# Altium footprint library NBNZY_AD_LIB.PcbLib: 11 footprints
Each footprint in its own frame and in the unit in brackets; x right, y up, seen from the top. Pads: shape width x height; smd on the part's side, far side on the other; paste and mask are expansions set on the pad; w line width, h text height; cw(c..) or ccw(c..) is an arc to the next point about the centre after c.
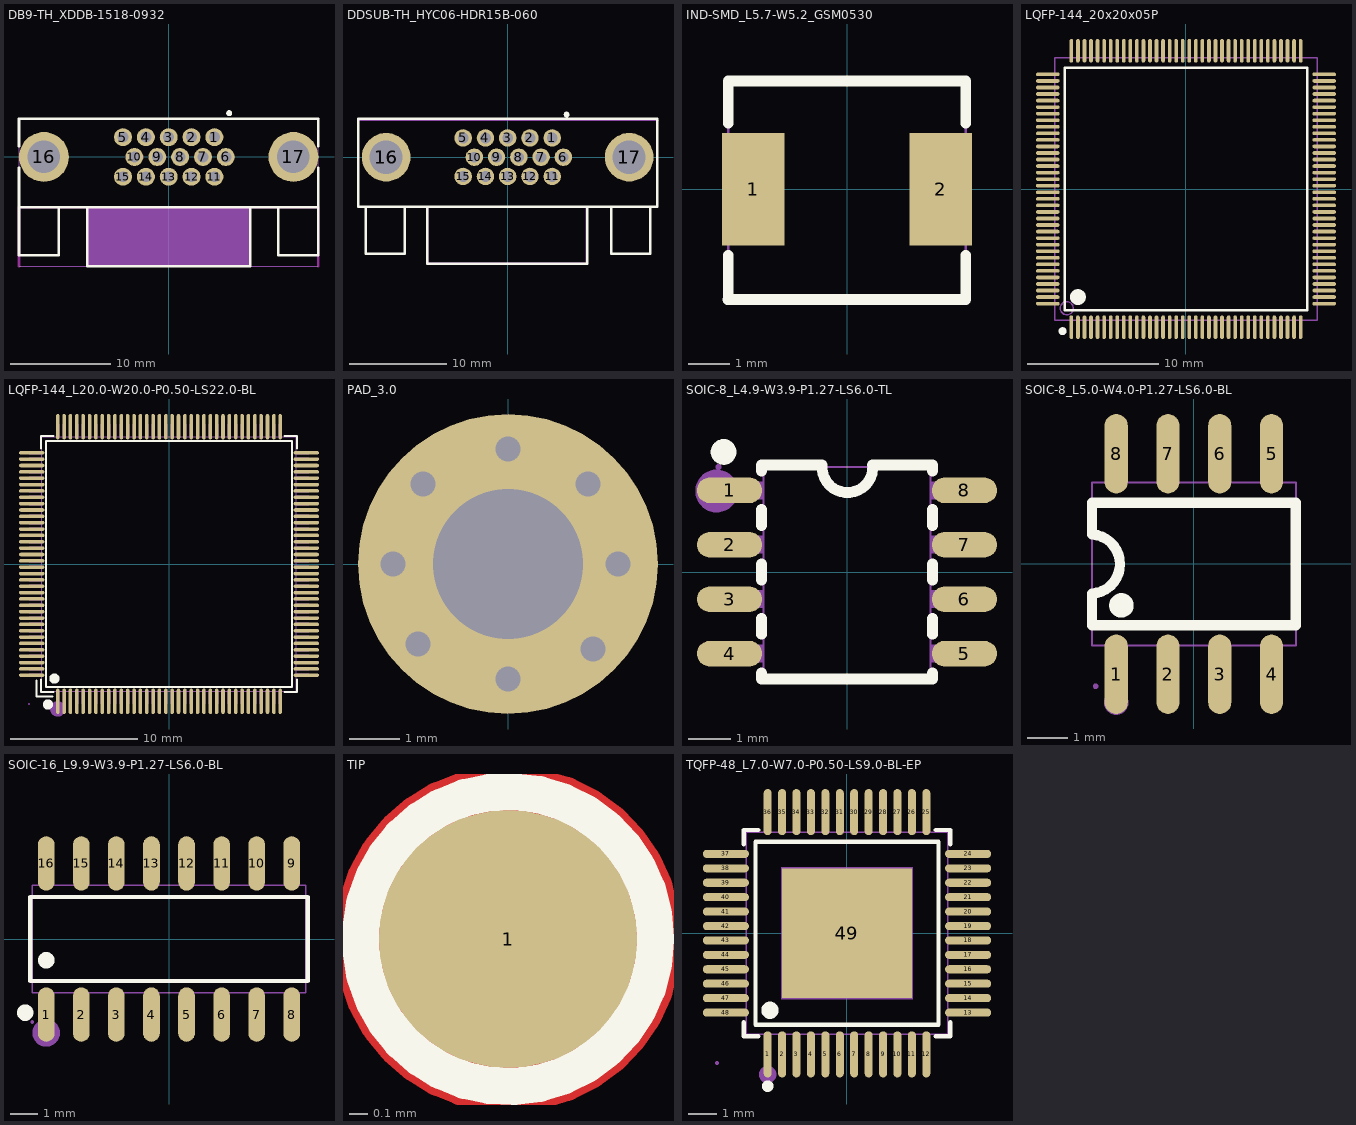
[diagram p0: the footprints below, top view; thin cyan lines are the x and y axes]

## DB9-TH_XDDB-1518-0932 [mil]
pads (17):
  round 70.9 hole 43.3: 1(180.3,78) 2(90.1,78) 3(-0.1,78) 4(-90.2,78) 5(-180.4,78) 6(225.3,0) 7(135.2,0) 8(45,0) 9(-45.1,0) 10(-135.3,0) 11(180.3,-78) 12(90.1,-78) 13(-0.1,-78) 14(-90.2,-78) 15(-180.4,-78)
  round 196.8 hole 128: 16(-492.2,0) 17(492.1,0)
Top Overlay:
  circle w11.8: c238.6,172.9 r5.9
  lines w10: -590.6,-43.1 -590.6,-199.2 ; -590.6,43.1 -590.6,151.2 590.5,151.2 590.5,43.1 ; -433.1,-199.2 -433.1,-388.2 -590.6,-388.2 -590.6,-199.2 ; -321.9,-199.2 -321.9,-431.5 321.8,-431.5 321.8,-199.2 ; 433,-199.2 433,-388.2 590.5,-388.2 590.5,-199.2 ; 590.5,-43.1 590.5,-199.2 ; -590.6,-199.2 590.5,-199.2
Keep-Out Layer:
  lines w10: -590.6,-431.5 -590.6,-199.2 590.5,-199.2 590.5,-431.5
Mechanical 2:
  region: -321.9,-199.2 321.8,-199.2 321.8,-431.5 -321.9,-431.5
Mechanical 6:
  lines w2: -590.6,-431.5 590.5,-431.5 590.5,151.2 -590.6,151.2 -590.6,-431.5
Mechanical 8:
  region: 592.9,151.2 592.9,150.21 591.49,148.8 589.51,148.8 588.1,150.21 588.1,151.2 588.1,152.19 589.51,153.6 591.49,153.6 592.9,152.19
Mechanical 9:
  drawing of 17 lines, arcs and shapes, not listed

## DDSUB-TH_HYC06-HDR15B-060 [mil]
pads (19):
  round 70.9 hole 43.3: 1(180.3,78) 2(90.1,78) 3(-0.1,78) 4(-90.2,78) 5(-180.4,78) 6(225.3,0) 7(135.2,0) 8(45,0) 9(-45.1,0) 10(-135.3,0) 11(180.3,-78) 12(90.1,-78) 13(-0.1,-78) 14(-90.2,-78) 15(-180.4,-78)
  round 196.8 hole 128: 16(-492.1,0) 17(492.1,0)
  round 177.2 hole 133.9: 16(-492.1,0) 17(492.1,0)
Top Overlay:
  circle w11.8: c238.6,172.9 r5.9
  lines w10: -575,-200 -575,-390 -417.5,-390 -417.5,-200 ; -325,-200 -325,-425 -325,-432.3 -321.8,-432.3 321.9,-432.3 321.9,-200 ; 419.7,-390 577.1,-390 577.1,-200 ; 420,-390 420,-200 ; -605,-200 605,-200 605,155 -605,155 -605,-200
Mechanical 2:
  region: -328.8,-198 -328.8,-430.3 -322.9,-436.2 320.8,-436.2 324.7,-432.3 324.7,-198 316.8,-198 316.8,-428.3 -321,-428.3 -321,-198
Mechanical 6:
  lines w2: -606.3,-200 -321.8,-200 -321.8,-432.3 321.9,-432.3 321.9,-200 606.3,-200 606.3,150.4 -606.3,150.4 -606.3,-200
Mechanical 8:
  region: 608.7,150.4 608.3,149.1 607.3,148.3 606,148.1 604.8,148.6 604,149.7 604,151.1 604.8,152.2 606,152.8 607.3,152.6 608.3,151.7
Mechanical 9:
  drawing of 17 lines, arcs and shapes, not listed

## IND-SMD_L5.7-W5.2_GSM0530 [mm]
pads (2):
  rect 1.501x2.7 smd: 1(-2.25,0) 2(2.25,0)
Top Overlay:
  lines w0.254: -2.865,-2.644 2.837,-2.644 ; -2.85,-2.644 -2.85,-1.73 -2.85,-1.58 ; -2.85,1.582 -2.85,1.732 -2.85,2.601 2.85,2.601 2.85,1.732 2.85,1.582 ; 2.85,-2.644 2.85,-1.73 ; 2.85,-2.05 2.85,-1.58
Mechanical 6:
  lines w0.051: -2.85,-2.598 2.85,-2.598 2.85,2.601 -2.85,2.601 -2.85,-2.598
Mechanical 8:
  region: -2.789,2.601 -2.789,2.576 -2.825,2.54 -2.875,2.54 -2.911,2.576 -2.911,2.601 -2.911,2.626 -2.875,2.662 -2.825,2.662 -2.789,2.626
Mechanical 9:
  region: 1.651,1.1 2.85,1.1 2.85,-1.1 1.651,-1.1
  region: -2.85,1.1 -1.651,1.1 -1.651,-1.1 -2.85,-1.1

## LQFP-144_20x20x05P [mm]
height 0.5
pads (144):
  oval 0.28x1.8 smd mask+0.051: 1(-8.75,-10.55) 2(-8.25,-10.55) 3(-7.75,-10.55) 4(-7.25,-10.55) 5(-6.75,-10.55) 6(-6.25,-10.55) 7(-5.75,-10.55) 8(-5.25,-10.55) 9(-4.75,-10.55) 10(-4.25,-10.55) 11(-3.75,-10.55) 12(-3.25,-10.55) 13(-2.75,-10.55) 14(-2.25,-10.55) 15(-1.75,-10.55) 16(-1.25,-10.55) 17(-0.75,-10.55) 18(-0.25,-10.55) 19(0.25,-10.55) 20(0.75,-10.55) 21(1.25,-10.55) 22(1.75,-10.55) 23(2.25,-10.55) 24(2.75,-10.55) 25(3.25,-10.55) 26(3.75,-10.55) 27(4.25,-10.55) 28(4.75,-10.55) 29(5.25,-10.55) 30(5.75,-10.55) 31(6.25,-10.55) 32(6.75,-10.55) 33(7.25,-10.55) 34(7.75,-10.55) 35(8.25,-10.55) 36(8.75,-10.55) 73(8.75,10.55) 74(8.25,10.55) 75(7.75,10.55) 76(7.25,10.55) 77(6.75,10.55) 78(6.25,10.55) 79(5.75,10.55) 80(5.25,10.55) 81(4.75,10.55) 82(4.25,10.55) 83(3.75,10.55) 84(3.25,10.55) 85(2.75,10.55) 86(2.25,10.55) 87(1.75,10.55) 88(1.25,10.55) 89(0.75,10.55) 90(0.25,10.55) 91(-0.25,10.55) 92(-0.75,10.55) 93(-1.25,10.55) 94(-1.75,10.55) 95(-2.25,10.55) 96(-2.75,10.55) 97(-3.25,10.55) 98(-3.75,10.55) 99(-4.25,10.55) 100(-4.75,10.55) 101(-5.25,10.55) 102(-5.75,10.55) 103(-6.25,10.55) 104(-6.75,10.55) 105(-7.25,10.55) 106(-7.75,10.55) 107(-8.25,10.55) 108(-8.75,10.55)
  oval 1.8x0.28 smd mask+0.051: 37(10.55,-8.75) 38(10.55,-8.25) 39(10.55,-7.75) 40(10.55,-7.25) 41(10.55,-6.75) 42(10.55,-6.25) 43(10.55,-5.75) 44(10.55,-5.25) 45(10.55,-4.75) 46(10.55,-4.25) 47(10.55,-3.75) 48(10.55,-3.25) 49(10.55,-2.75) 50(10.55,-2.25) 51(10.55,-1.75) 52(10.55,-1.25) 53(10.55,-0.75) 54(10.55,-0.25) 55(10.55,0.25) 56(10.55,0.75) 57(10.55,1.25) 58(10.55,1.75) 59(10.55,2.25) 60(10.55,2.75) 61(10.55,3.25) 62(10.55,3.75) 63(10.55,4.25) 64(10.55,4.75) 65(10.55,5.25) 66(10.55,5.75) 67(10.55,6.25) 68(10.55,6.75) 69(10.55,7.25) 70(10.55,7.75) 71(10.55,8.25) 72(10.55,8.75) 109(-10.55,8.75) 110(-10.55,8.25) 111(-10.55,7.75) 112(-10.55,7.25) 113(-10.55,6.75) 114(-10.55,6.25) 115(-10.55,5.75) 116(-10.55,5.25) 117(-10.55,4.75) 118(-10.55,4.25) 119(-10.55,3.75) 120(-10.55,3.25) 121(-10.55,2.75) 122(-10.55,2.25) 123(-10.55,1.75) 124(-10.55,1.25) 125(-10.55,0.75) 126(-10.55,0.25) 127(-10.55,-0.25) 128(-10.55,-0.75) 129(-10.55,-1.25) 130(-10.55,-1.75) 131(-10.55,-2.25) 132(-10.55,-2.75) 133(-10.55,-3.25) 134(-10.55,-3.75) 135(-10.55,-4.25) 136(-10.55,-4.75) 137(-10.55,-5.25) 138(-10.55,-5.75) 139(-10.55,-6.25) 140(-10.55,-6.75) 141(-10.55,-7.25) 142(-10.55,-7.75) 143(-10.55,-8.25) 144(-10.55,-8.75)
Top Overlay:
  circle w0.3: c-9.425,-10.85 r0.15
  circle w0.6: c-8.25,-8.25 r0.3
  lines w0.2: -9.25,-9.25 -9.25,9.25 9.25,9.25 9.25,-9.25 -9.25,-9.25
Mechanical 13:
  circle w0.1: c-9.1,-9.1 r0.5
  lines w0.1: -10,-10 -10,10 10,10 10,-10 -10,-10
3D body "LQFP20X20-144.STEP": height 1.6, standoff 0, extent -11,-11 11,11

## LQFP-144_L20.0-W20.0-P0.50-LS22.0-BL [mil]
pads (144):
  oval 11x78.7 smd: 1(-344.5,-425.2) 2(-324.8,-425.2) 3(-305.2,-425.2) 4(-285.5,-425.2) 5(-265.8,-425.2) 6(-246.1,-425.2) 7(-226.4,-425.2) 8(-206.7,-425.2) 9(-187,-425.2) 10(-167.4,-425.2) 11(-147.7,-425.2) 12(-128,-425.2) 13(-108.3,-425.2) 14(-88.6,-425.2) 15(-68.9,-425.2) 16(-49.2,-425.2) 17(-29.6,-425.2) 18(-9.9,-425.2) 19(9.8,-425.2) 20(29.5,-425.2) 21(49.2,-425.2) 22(68.9,-425.2) 23(88.5,-425.2) 24(108.2,-425.2) 25(127.9,-425.2) 26(147.6,-425.2) 27(167.3,-425.2) 28(187,-425.2) 29(206.7,-425.2) 30(226.3,-425.2) 31(246,-425.2) 32(265.7,-425.2) 33(285.4,-425.2) 34(305.1,-425.2) 35(324.8,-425.2) 36(344.5,-425.2) 73(344.5,425.2) 74(324.8,425.2) 75(305.1,425.2) 76(285.4,425.2) 77(265.7,425.2) 78(246,425.2) 79(226.3,425.2) 80(206.7,425.2) 81(187,425.2) 82(167.3,425.2) 83(147.6,425.2) 84(127.9,425.2) 85(108.2,425.2) 86(88.5,425.2) 87(68.9,425.2) 88(49.2,425.2) 89(29.5,425.2) 90(9.8,425.2) 91(-9.9,425.2) 92(-29.6,425.2) 93(-49.2,425.2) 94(-68.9,425.2) 95(-88.6,425.2) 96(-108.3,425.2) 97(-128,425.2) 98(-147.7,425.2) 99(-167.4,425.2) 100(-187,425.2) 101(-206.7,425.2) 102(-226.4,425.2) 103(-246.1,425.2) 104(-265.8,425.2) 105(-285.5,425.2) 106(-305.2,425.2) 107(-324.8,425.2) 108(-344.5,425.2)
  oval 78.7x11 smd: 37(425.2,-344.5) 38(425.2,-324.8) 39(425.2,-305.2) 40(425.2,-285.5) 41(425.2,-265.8) 42(425.2,-246.1) 43(425.2,-226.4) 44(425.2,-206.7) 45(425.2,-187) 46(425.2,-167.4) 47(425.2,-147.7) 48(425.2,-128) 49(425.2,-108.3) 50(425.2,-88.6) 51(425.2,-68.9) 52(425.2,-49.2) 53(425.2,-29.6) 54(425.2,-9.9) 55(425.2,9.8) 56(425.2,29.5) 57(425.2,49.2) 58(425.2,68.9) 59(425.2,88.5) 60(425.2,108.2) 61(425.2,127.9) 62(425.2,147.6) 63(425.2,167.3) 64(425.2,187) 65(425.2,206.7) 66(425.2,226.3) 67(425.2,246) 68(425.2,265.7) 69(425.2,285.4) 70(425.2,305.1) 71(425.2,324.8) 72(425.2,344.5) 109(-425.2,344.5) 110(-425.2,324.8) 111(-425.2,305.1) 112(-425.2,285.4) 113(-425.2,265.7) 114(-425.2,246) 115(-425.2,226.3) 116(-425.2,206.7) 117(-425.2,187) 118(-425.2,167.3) 119(-425.2,147.6) 120(-425.2,127.9) 121(-425.2,108.2) 122(-425.2,88.5) 123(-425.2,68.9) 124(-425.2,49.2) 125(-425.2,29.5) 126(-425.2,9.8) 127(-425.2,-9.9) 128(-425.2,-29.6) 129(-425.2,-49.2) 130(-425.2,-68.9) 131(-425.2,-88.6) 132(-425.2,-108.3) 133(-425.2,-128) 134(-425.2,-147.7) 135(-425.2,-167.4) 136(-425.2,-187) 137(-425.2,-206.7) 138(-425.2,-226.4) 139(-425.2,-246.1) 140(-425.2,-265.8) 141(-425.2,-285.5) 142(-425.2,-305.2) 143(-425.2,-324.8) 144(-425.2,-344.5)
Top Overlay:
  circle w15.7: c-375,-435 r7.9
  circle w15.7: c-355,-355 r7.9
  lines w6: -410,-360 -410,-410 -360,-410 ; -396.7,-357.5 -396.7,-396.7 -357.5,-396.7 ; -396.7,357.5 -396.7,396.7 -357.5,396.7 ; 357.5,-396.7 396.7,-396.7 396.7,-357.5 ; 357.5,396.7 396.7,396.7 396.7,357.5 ; -380.8,-380.8 -380.8,380.7 380.7,380.7 380.7,-380.8 -380.8,-380.8
Mechanical 2:
  circle w23.6: c-344.5,-448.9 r11.8
Mechanical 6:
  lines w2: -393.7,-393.7 -393.7,393.7 393.7,393.7 393.7,-393.7 -393.7,-393.7
Mechanical 7:
  drawing of 144 lines, arcs and shapes, not listed
Mechanical 8:
  region: -430.7,-433.1 -430.7,-434.09 -432.11,-435.5 -434.09,-435.5 -435.5,-434.09 -435.5,-433.1 -435.5,-432.11 -434.09,-430.7 -432.11,-430.7 -430.7,-432.11
Mechanical 9:
  drawing of 144 lines, arcs and shapes, not listed

## PAD_3.0 [mm]
pads (1):
  round 6 hole 3: ""(0,0)
via 0,2.3 diameter 0.5 hole 0.5
via 0,-2.3 diameter 0.5 hole 0.5
via -1.8,-1.6 diameter 0.5 hole 0.5
via -1.7,1.6 diameter 0.5 hole 0.5
via 1.7,-1.7 diameter 0.5 hole 0.5
via -2.3,0 diameter 0.5 hole 0.5
via 2.2,0 diameter 0.5 hole 0.5
via 1.6,1.6 diameter 0.5 hole 0.5

## SOIC-8_L4.9-W3.9-P1.27-LS6.0-TL [mm]
pads (8):
  oval 1.519x0.599 smd: 1(-2.741,1.905) 2(-2.741,0.635) 3(-2.741,-0.635) 4(-2.741,-1.905) 5(2.741,-1.905) 6(2.741,-0.635) 7(2.741,0.635) 8(2.741,1.905)
Top Overlay:
  circle w0.3: c-2.88,2.802 r0.15
  lines w0.254: -1.999,-2.355 -1.999,-2.499 1.999,-2.499 1.999,-2.355 ; -1.999,-1.453 -1.999,-1.085 ; -1.999,-0.183 -1.999,0.185 ; -1.999,1.087 -1.999,1.455 ; -1.999,2.357 -1.999,2.499 -0.579,2.499 ; -0.58,2.49 ccw(c0.01,2.446) 0.6,2.49 ; 0.599,2.499 1.999,2.499 1.999,2.357 ; 1.999,-1.453 1.999,-1.085 ; 1.999,-0.183 1.999,0.185 ; 1.999,1.087 1.999,1.455
Mechanical 2:
  circle w0.5: c-3.04,1.89 r0.249
Mechanical 6:
  lines w0.051: -1.951,-2.449 1.951,-2.449 1.951,2.451 -1.951,2.451 -1.951,-2.449
Mechanical 7:
  region: 1.941,-2.108 1.941,-1.699 2.174,-1.699 2.174,-2.108
  region: 1.941,-0.838 1.941,-0.429 2.174,-0.429 2.174,-0.838
  region: 1.941,0.432 1.941,0.841 2.174,0.841 2.174,0.432
  region: 1.941,1.702 1.941,2.111 2.174,2.111 2.174,1.702
  region: -2.174,-2.108 -2.174,-1.699 -1.941,-1.699 -1.941,-2.108
  region: -2.174,-0.838 -2.174,-0.429 -1.941,-0.429 -1.941,-0.838
  region: -2.174,0.432 -2.174,0.841 -1.941,0.841 -1.941,0.432
  region: -2.174,1.702 -2.174,2.111 -1.941,2.111 -1.941,1.702
Mechanical 8:
  region: -2.939,2.451 -2.939,2.426 -2.974,2.39 -3.025,2.39 -3.061,2.426 -3.061,2.451 -3.061,2.476 -3.025,2.512 -2.974,2.512 -2.939,2.476
Mechanical 9:
  region: 2.164,-2.108 2.164,-1.699 3,-1.699 3,-2.108
  region: 2.164,-0.838 2.164,-0.429 3,-0.429 3,-0.838
  region: 2.164,0.432 2.164,0.841 3,0.841 3,0.432
  region: 2.164,1.702 2.164,2.111 3,2.111 3,1.702
  region: -3,-2.108 -3,-1.699 -2.164,-1.699 -2.164,-2.108
  region: -3,-0.838 -3,-0.429 -2.164,-0.429 -2.164,-0.838
  region: -3,0.432 -3,0.841 -2.164,0.841 -2.164,0.432
  region: -3,1.702 -3,2.111 -2.164,2.111 -2.164,1.702

## SOIC-8_L5.0-W4.0-P1.27-LS6.0-BL [mil]
pads (8):
  oval 22.4x76.8 smd: 1(-75,-106.5) 2(-25,-106.5) 3(25,-106.5) 4(75,-106.5) 5(75,106.5) 6(25,106.5) 7(-25,106.5) 8(-75,106.5)
Top Overlay:
  circle w11.8: c-70,-40 r5.9
  lines w10: -98.45,-28.56 ccw(c-100,0) -98.25,28.55 ; -98.4,-28.6 -98.4,-59.1 98.5,-59.1 98.5,59 -98.4,59 -98.4,28.6
Mechanical 2:
  circle w11.8: c-75,-133.9 r5.9
Mechanical 6:
  lines w2: -98.4,-78.7 -98.4,78.7 98.5,78.7 98.5,-78.7 -98.4,-78.7
Mechanical 7:
  region: 67,76.4 67,85.6 83.1,85.6 83.1,76.4
  region: 17,76.4 17,85.6 33.1,85.6 33.1,76.4
  region: -33,76.4 -33,85.6 -16.9,85.6 -16.9,76.4
  region: -83,76.4 -83,85.6 -66.9,85.6 -66.9,76.4
  region: 67,-85.6 67,-76.4 83.1,-76.4 83.1,-85.6
  region: 17,-85.6 17,-76.4 33.1,-76.4 33.1,-85.6
  region: -33,-85.6 -33,-76.4 -16.9,-76.4 -16.9,-85.6
  region: -83,-85.6 -83,-76.4 -66.9,-76.4 -66.9,-85.6
Mechanical 8:
  region: -92.6,-118.1 -92.6,-119.09 -94.01,-120.5 -95.99,-120.5 -97.4,-119.09 -97.4,-118.1 -97.4,-117.11 -95.99,-115.7 -94.01,-115.7 -92.6,-117.11
Mechanical 9:
  region: 67,85.2 67,118.1 83.1,118.1 83.1,85.2
  region: 17,85.2 17,118.1 33.1,118.1 33.1,85.2
  region: -33,85.2 -33,118.1 -16.9,118.1 -16.9,85.2
  region: -83,85.2 -83,118.1 -66.9,118.1 -66.9,85.2
  region: 67,-118.1 67,-85.2 83.1,-85.2 83.1,-118.1
  region: 17,-118.1 17,-85.2 33.1,-85.2 33.1,-118.1
  region: -33,-118.1 -33,-85.2 -16.9,-85.2 -16.9,-118.1
  region: -83,-118.1 -83,-85.2 -66.9,-85.2 -66.9,-118.1

## SOIC-16_L9.9-W3.9-P1.27-LS6.0-BL [mm]
pads (16):
  oval 0.602x1.971 smd: 1(-4.445,-2.736) 2(-3.175,-2.736) 3(-1.905,-2.736) 4(-0.635,-2.736) 5(0.635,-2.736) 6(1.905,-2.736) 7(3.175,-2.736) 8(4.445,-2.736) 9(4.445,2.736) 10(3.175,2.736) 11(1.905,2.736) 12(0.635,2.736) 13(-0.635,2.736) 14(-1.905,2.736) 15(-3.175,2.736) 16(-4.445,2.736)
Top Overlay:
  circle w0.3: c-5.207,-2.667 r0.15
  circle w0.3: c-4.445,-0.77 r0.15
  lines w0.152: -5.027,-1.521 5.027,-1.521 5.027,1.521 -5.027,1.521 -5.027,-1.521
Mechanical 2:
  circle w0.5: c-4.445,-3.401 r0.249
Mechanical 6:
  lines w0.051: -4.95,-1.951 4.95,-1.951 4.95,1.951 -4.95,1.951 -4.95,-1.951
Mechanical 7:
  region: 4.229,2.309 4.229,1.941 4.661,1.941 4.661,2.309
  region: 2.959,2.309 2.959,1.941 3.391,1.941 3.391,2.309
  region: 1.689,2.309 1.689,1.941 2.121,1.941 2.121,2.309
  region: 0.419,2.309 0.419,1.941 0.851,1.941 0.851,2.309
  region: -0.851,2.309 -0.851,1.941 -0.419,1.941 -0.419,2.309
  region: -2.121,2.309 -2.121,1.941 -1.689,1.941 -1.689,2.309
  region: -3.391,2.309 -3.391,1.941 -2.959,1.941 -2.959,2.309
  region: -4.661,2.309 -4.661,1.941 -4.229,1.941 -4.229,2.309
  region: 4.229,-2.309 4.229,-1.941 4.661,-1.941 4.661,-2.309
  region: 2.959,-2.309 2.959,-1.941 3.391,-1.941 3.391,-2.309
  region: 1.689,-2.309 1.689,-1.941 2.121,-1.941 2.121,-2.309
  region: 0.419,-2.309 0.419,-1.941 0.851,-1.941 0.851,-2.309
  region: -0.851,-2.309 -0.851,-1.941 -0.419,-1.941 -0.419,-2.309
  region: -2.121,-2.309 -2.121,-1.941 -1.689,-1.941 -1.689,-2.309
  region: -3.391,-2.309 -3.391,-1.941 -2.959,-1.941 -2.959,-2.309
  region: -4.661,-2.309 -4.661,-1.941 -4.229,-1.941 -4.229,-2.309
Mechanical 8:
  region: -4.889,-3 -4.889,-3.025 -4.925,-3.061 -4.976,-3.061 -5.011,-3.025 -5.011,-3 -5.011,-2.974 -4.976,-2.939 -4.925,-2.939 -4.889,-2.974
Mechanical 9:
  region: 4.229,3 4.229,2.299 4.661,2.299 4.661,3
  region: 2.959,3 2.959,2.299 3.391,2.299 3.391,3
  region: 1.689,3 1.689,2.299 2.121,2.299 2.121,3
  region: 0.419,3 0.419,2.299 0.851,2.299 0.851,3
  region: -0.851,3 -0.851,2.299 -0.419,2.299 -0.419,3
  region: -2.121,3 -2.121,2.299 -1.689,2.299 -1.689,3
  region: -3.391,3 -3.391,2.299 -2.959,2.299 -2.959,3
  region: -4.661,3 -4.661,2.299 -4.229,2.299 -4.229,3
  region: 4.229,-3 4.229,-2.301 4.661,-2.301 4.661,-3
  region: 2.959,-3 2.959,-2.301 3.391,-2.301 3.391,-3
  region: 1.689,-3 1.689,-2.301 2.121,-2.301 2.121,-3
  region: 0.419,-3 0.419,-2.301 0.851,-2.301 0.851,-3
  region: -0.851,-3 -0.851,-2.301 -0.419,-2.301 -0.419,-3
  region: -2.121,-3 -2.121,-2.301 -1.689,-2.301 -1.689,-3
  region: -3.391,-3 -3.391,-2.301 -2.959,-2.301 -2.959,-3
  region: -4.661,-3 -4.661,-2.301 -4.229,-2.301 -4.229,-3

## TIP [mm] "测试点1.6mm"
pads (1):
  round 1.4 smd: 1(0,0)
Top Layer:
  circle w0.254: c0,0 r0.813
Top Overlay:
  circle w0.203: c0,0 r0.8

## TQFP-48_L7.0-W7.0-P0.50-LS9.0-BL-EP [mil]
pads (49):
  oval 11x63 smd paste-3937 mask+2: 1(-108.2,-165.3) 2(-88.5,-165.3) 3(-68.9,-165.3) 4(-49.2,-165.3) 5(-29.5,-165.3) 6(-9.8,-165.3) 7(9.9,-165.3) 8(29.6,-165.3) 9(49.3,-165.3) 10(68.9,-165.3) 11(88.6,-165.3) 12(108.3,-165.3) 25(108.3,165.3) 26(88.6,165.3) 27(68.9,165.3) 28(49.3,165.3) 29(29.6,165.3) 30(9.9,165.3) 31(-9.8,165.3) 32(-29.5,165.3) 33(-49.2,165.3) 34(-68.9,165.3) 35(-88.5,165.3) 36(-108.2,165.3)
  oval 63x11 smd paste-3937 mask+2: 13(165.4,-108.3) 14(165.4,-88.6) 15(165.4,-68.9) 16(165.4,-49.2) 17(165.4,-29.5) 18(165.4,-9.8) 19(165.4,9.8) 20(165.4,29.5) 21(165.4,49.2) 22(165.4,68.9) 23(165.4,88.6) 24(165.4,108.3) 37(-165.3,108.3) 38(-165.3,88.6) 39(-165.3,68.9) 40(-165.3,49.2) 41(-165.3,29.5) 42(-165.3,9.8) 43(-165.3,-9.8) 44(-165.3,-29.5) 45(-165.3,-49.2) 46(-165.3,-68.9) 47(-165.3,-88.6) 48(-165.3,-108.3)
  rect 177.17x177.17 smd paste-3937 mask+2: 49(0,0)
Top Overlay:
  circle w7.9: c-108.2,-208.7 r3.9
  circle w11.8: c-105.1,-105.2 r5.9
  lines w6: -140.7,-121.3 -140.7,-140.8 -121.2,-140.8 ; -140.7,121.3 -140.7,140.8 -121.2,140.8 ; 121.3,-140.8 140.8,-140.8 140.8,-121.3 ; 121.3,140.8 140.8,140.8 140.8,121.3 ; -124.8,-124.9 -124.8,124.9 124.9,124.9 124.9,-124.9 -124.8,-124.9
Top Paste:
  drawing of 49 lines, arcs and shapes, not listed
Mechanical 2:
  circle w11.8: c-108.2,-192.9 r5.9
Mechanical 6:
  lines w2: -137.7,-137.8 -137.7,137.8 137.8,137.8 137.8,-137.8 -137.7,-137.8
Mechanical 7:
  drawing of 48 lines, arcs and shapes, not listed
Mechanical 8:
  region: -174.7,-177.2 -174.7,-178.19 -176.11,-179.6 -178.09,-179.6 -179.5,-178.19 -179.5,-177.2 -179.5,-176.21 -178.09,-174.8 -176.11,-174.8 -174.7,-176.21
Mechanical 9:
  drawing of 49 lines, arcs and shapes, not listed